# Altium footprint library L_SRR5028_M.pcblib: 1 footprints
Each footprint in its own frame and in the unit in brackets; x right, y up, seen from the top. Pads: shape width x height; smd on the part's side, far side on the other; paste and mask are expansions set on the pad; w line width, h text height; cw(c..) or ccw(c..) is an arc to the next point about the centre after c.
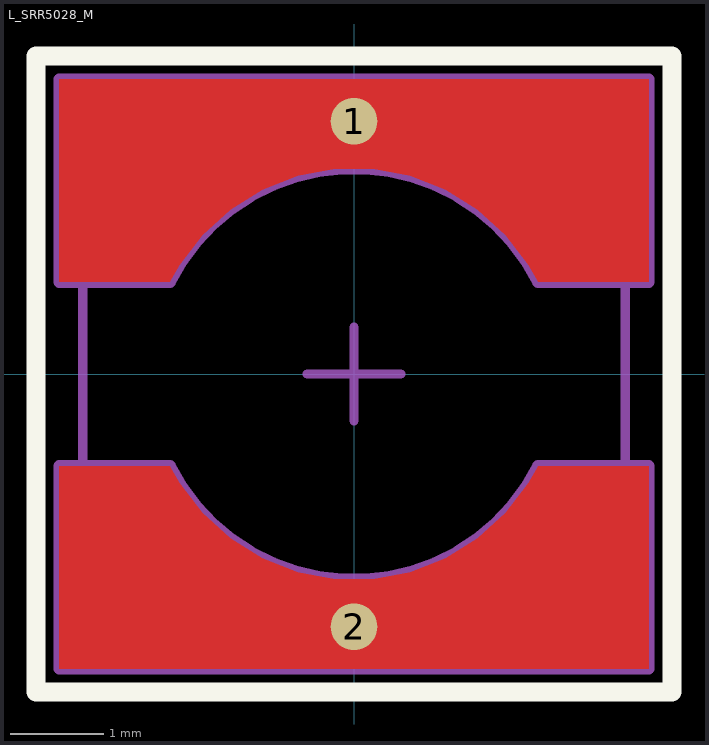
[diagram p0: the footprint, top view; thin cyan lines are the x and y axes]

## L_SRR5028_M [mm] "Precision Wire Wound"
height 4.8
pads (2):
  round 0.5 smd: 1(0,2.7) 2(0,-2.7)
Top Layer:
  region: -3.15,0.984 -1.968,0.984 -1.869,1.161 -1.624,1.484 -1.324,1.757 -0.979,1.97 -0.601,2.116 -0.203,2.191 0.203,2.191 0.601,2.116 0.979,1.97 1.324,1.757 1.624,1.484 1.869,1.161 1.968,0.984 3.15,0.984 3.15,3.15 -3.15,3.15
  region: -3.15,-3.15 3.15,-3.15 3.15,-0.984 1.968,-0.984 1.869,-1.161 1.624,-1.484 1.324,-1.757 0.979,-1.97 0.601,-2.116 0.203,-2.191 -0.203,-2.191 -0.601,-2.116 -0.979,-1.97 -1.324,-1.757 -1.624,-1.484 -1.869,-1.161 -1.968,-0.984 -3.15,-0.984
Top Overlay:
  lines w0.203: -3.4,-3.4 -3.4,1.7 -3.4,3.4 3.4,3.4 3.4,-3.4 -3.4,-3.4
Mechanical 13:
  lines w0.1: -2.9,-2.9 2.9,-2.9 2.9,2.9 -2.9,2.9 -2.9,-2.9
Mechanical 15:
  lines w0.1: -0.5,0 0.5,0 ; 0,-0.5 0,0.5 ; -3.4,-3.4 3.4,-3.4 3.4,3.4 -3.4,3.4 -3.4,-3.4
Mechanical 17:
  text "'.Designator'" at -1.448,-1.067 h0.38
Mechanical 19:
  text "'.Comment'" at -1.948,-1.167 h0.38
Mechanical 31:
  lines w0.127: -3.15,-3.15 3.15,-3.15 3.15,-0.984 1.968,-0.984 cw(c0,0) -1.968,-0.984 -3.15,-0.984 -3.15,-3.15 ; -3.15,0.984 -1.968,0.984 cw(c0,0) 1.968,0.984 3.15,0.984 3.15,3.15 -3.15,3.15 -3.15,0.984
3D body "srr5028.stp": height 2.8, standoff 0, extent -2.9,-2.9 2.9,2.9